# EAGLE library part MPU-6500 (library invensense)
6-axis MotionTracking device communicate with I2C/SPI Source: http://www.invensense.com/mems/gyro/documents/PS-MPU-6500A-01.pdf
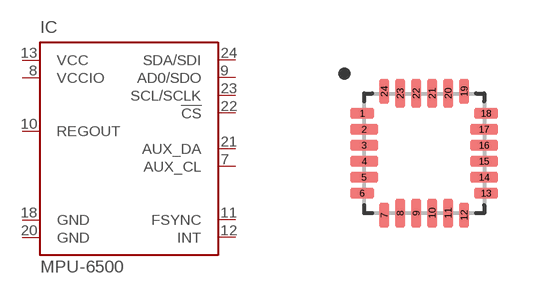
[diagram p2: symbol with the pads of QFN24-SMALL; footprint QFN24-SMALL]

Designator prefix IC

## MPU-6500  [QFN24-SMALL]
7  AUX_CL  out
8  VCCIO  pwr
9  AD0/SDO  in
10  REGOUT  in
11  FSYNC  in
12  INT  out
13  VCC  pwr
18  GND  pwr
20  GND  pwr
21  AUX_DA
22  !CS  in
23  SCL/SCLK
24  SDA/SDI  out

## Footprint QFN24-SMALL (pad centres in mm)
smd 0.6 x 0.25: 1 -1.55,1; 6 -1.55,-1; 13 1.55,-1; 18 1.55,1
smd 0.7 x 0.25: 2 -1.5,0.6; 3 -1.5,0.2; 4 -1.5,-0.2; 5 -1.5,-0.6; 14 1.5,-0.6; 15 1.5,-0.2; 16 1.5,0.2; 17 1.5,0.6
smd 0.25 x 0.6: 7 -1,-1.55; 12 1,-1.55; 19 1,1.55; 24 -1,1.55
smd 0.25 x 0.7: 8 -0.6,-1.5; 9 -0.2,-1.5; 10 0.2,-1.5; 11 0.6,-1.5; 20 0.6,1.5; 21 0.2,1.5; 22 -0.2,1.5; 23 -0.6,1.5